# EAGLE library part MAX9034 (library bschulz)
MAX9034 - Ultra-Small nanoPower Single Comparator , Quad Characteristics: Vin: 2.5V ~ 5.5V Response Time: 188ns IQ: 35μA Internal Ref Operating Temperature: -40°C to 85°C Digikey: MAX9034AUD+CT-ND (TSSOP) <https://www.digikey.com/en/products/detail/maxim-integrated/MAX9034AUD-T/1498905>
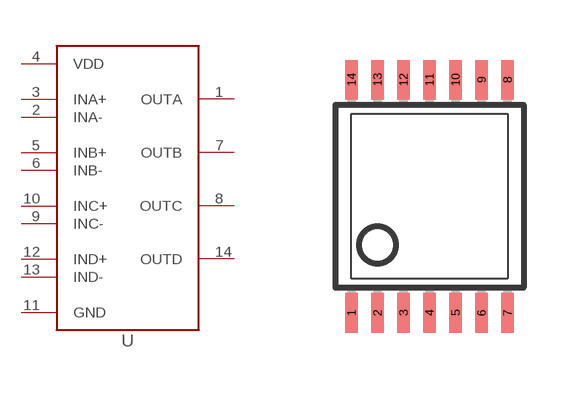
[diagram p154: symbol with the pads of TSSOP14; footprint TSSOP14]

Designator prefix U

## MAX9034TSSOP (DIGIKEY: MAX9034AUD+CT-ND; DISP: MAX9034; MF: Maxim; MPN: MAX9034AUD+T)  [TSSOP14]
1  OUTA  out
2  INA-  in
3  INA+  in
4  VDD  pwr
5  INB+  in
6  INB-  in
7  OUTB  out
8  OUTC  out
9  INC-  in
10  INC+  in
11  GND  pwr
12  IND+  in
13  IND-  in
14  OUTD  out

## Footprint TSSOP14 (pad centres in mm)
Thin Shrink Small Outline Plastic 14 0.65mm pitch, 14 pin Datasheet <https://pdfserv.maximintegrated.com/en/ds/MAX3221-MAX3243.pdf>
smd 0.305 x 0.991: 1 -1.95,-2.918; 2 -1.3,-2.918; 3 -0.65,-2.918; 4 0,-2.918; 5 0.65,-2.918; 6 1.3,-2.918; 7 1.95,-2.918; 8 1.95,2.918; 9 1.3,2.918; 10 0.65,2.918; 11 0,2.918; 12 -0.65,2.918; 13 -1.3,2.918; 14 -1.95,2.918